# EAGLE library part OPA643U (library burr-brown)
Wideband Low Distortion, High Gain Operational Amplifier
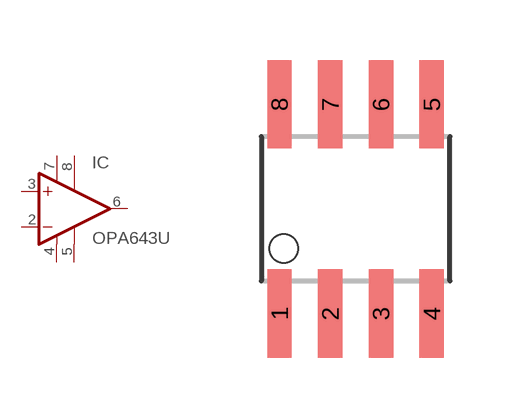
[diagram p90: symbol with the pads of SO-08; footprint SO-08]

Designator prefix IC

## OPA643U  [SO-08]
2  -IN  in
3  +IN  in
4  -VS1  pwr
5  -VS2  pwr
6  OUT  out
7  +VS1  pwr
8  +VS2  pwr

## Footprint SO-08 (pad centres in mm)
smd 0.61 x 2.21: 1 -1.905,-2.616; 2 -0.635,-2.616; 3 0.635,-2.616; 4 1.905,-2.616; 5 1.905,2.616; 6 0.635,2.616; 7 -0.635,2.616; 8 -1.905,2.616